# Altium footprint library WT41.PcbLib: 1 footprints
Each footprint in its own frame and in the unit in brackets; x right, y up, seen from the top. Pads: shape width x height; smd on the part's side, far side on the other; paste and mask are expansions set on the pad; w line width, h text height; cw(c..) or ccw(c..) is an arc to the next point about the centre after c.
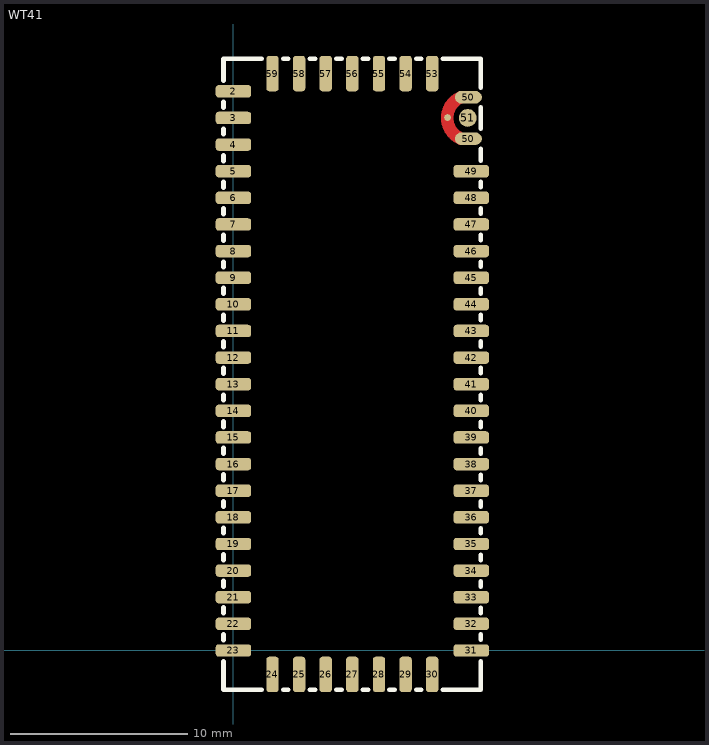
[diagram p0: the footprint, top view; thin cyan lines are the x and y axes]

## WT41 [mm]
pads (59):
  rrect50% 2x0.7 smd: 2(0,31.5) 3(0,30) 4(0,28.5) 5(0,27) 6(0,25.5) 7(0,24) 8(0,22.5) 9(0,21) 10(0,19.5) 11(0,18) 12(0,16.5) 13(0,15) 14(0,13.5) 15(0,12) 16(0,10.5) 17(0,9) 18(0,7.5) 19(0,6) 20(0,4.5) 21(0,3) 22(0,1.5) 23(0,0) 31(13.4,0) 32(13.4,1.5) 33(13.4,3) 34(13.4,4.5) 35(13.4,6) 36(13.4,7.5) 37(13.4,9) 38(13.4,10.5) 39(13.4,12) 40(13.4,13.5) 41(13.4,15) 42(13.4,16.5) 43(13.4,18) 44(13.4,19.5) 45(13.4,21) 46(13.4,22.5) 47(13.4,24) 48(13.4,25.5) 49(13.4,27)
  rrect50% 0.7x2 smd: 24(2.2,-1.35) 25(3.7,-1.35) 26(5.2,-1.35) 27(6.7,-1.35) 28(8.2,-1.35) 29(9.7,-1.35) 30(11.2,-1.35) 53(11.2,32.5) 54(9.7,32.5) 55(8.2,32.5) 56(6.7,32.5) 57(5.2,32.5) 58(3.7,32.5) 59(2.2,32.5)
  round 0.381 smd: 50(12.065,30.023)
  oval 1.524x0.7 smd: 50(13.233,28.829) 50(13.233,31.166)
  round 1 smd: 51(13.2,30)
Top Layer:
  lines w0.7: 12.798,28.839 cw(c13.314,30) 12.798,31.161
Top Overlay:
  lines w0.254: -0.559,-0.61 -0.559,-2.21 1.6,-2.21 ; -0.559,0.572 -0.559,0.902 ; -0.559,2.095 -0.559,2.426 ; -0.559,3.594 -0.559,3.924 ; -0.559,5.093 -0.559,5.423 ; -0.559,6.591 -0.559,6.921 ; -0.559,8.09 -0.559,8.42 ; -0.559,9.588 -0.559,9.919 ; -0.559,11.087 -0.559,11.417 ; -0.559,12.586 -0.559,12.916 ; -0.559,14.084 -0.559,14.414 ; -0.559,15.583 -0.559,15.913 ; -0.559,17.081 -0.559,17.412 ; -0.559,18.58 -0.559,18.91 ; -0.559,20.091 -0.559,20.422 ; -0.559,21.577 -0.559,21.907 ; -0.559,23.076 -0.559,23.406 ; -0.559,24.575 -0.559,24.905 ; -0.559,26.073 -0.559,26.403 ; -0.559,27.572 -0.559,27.902 ; -0.559,29.07 -0.559,29.4 ; -0.559,30.569 -0.559,30.899 ; -0.559,32.106 -0.559,33.34 1.6,33.34 ; 2.794,-2.21 3.099,-2.21 ; 2.794,33.34 3.099,33.34 ; 4.293,-2.21 4.597,-2.21 ; 4.293,33.34 4.597,33.34 ; 5.791,-2.21 6.096,-2.21 ; 5.791,33.34 6.096,33.34 ; 7.29,-2.21 7.595,-2.21 ; 7.29,33.34 7.595,33.34 ; 8.788,-2.21 9.093,-2.21 ; 8.788,33.34 9.093,33.34 ; 10.287,-2.21 10.592,-2.21 ; 10.287,33.34 10.592,33.34 ; 11.786,-2.21 13.941,-2.21 13.941,-0.594 ; 11.786,33.34 13.941,33.34 13.941,31.715 ; 13.941,0.6 13.941,0.904 ; 13.941,2.098 13.941,2.403 ; 13.941,3.597 13.941,3.902 ; 13.941,5.095 13.941,5.4 ; 13.941,6.594 13.941,6.899 ; 13.941,8.093 13.941,8.397 ; 13.941,9.591 13.941,9.896 ; 13.941,11.09 13.941,11.395 ; 13.941,12.588 13.941,12.893 ; 13.941,14.087 13.941,14.392 ; 13.941,15.611 13.941,15.916 ; 13.941,17.11 13.941,17.414 ; 13.941,18.608 13.941,18.913 ; 13.941,20.107 13.941,20.412 ; 13.941,21.605 13.941,21.91 ; 13.941,23.104 13.941,23.409 ; 13.941,24.603 13.941,24.907 ; 13.941,26.101 13.941,26.406 ; 13.941,27.6 13.941,28.26 ; 13.941,29.403 13.941,30.597
Top Paste:
  lines w0.254: 13.941,29.403 13.941,30.597
  lines w0.7: 12.798,28.839 cw(c13.314,30) 12.798,31.161
Top Solder:
  lines w0.9: 12.8,28.839 cw(c13.316,30) 12.8,31.161
3D body: height 5.65, standoff 1.5, extent 0,31 10,33
3D body: height 3.35, standoff 1.5, extent 0,-1.9 13.3,23.6
3D body: height 1.5, standoff 0, extent -0.305,-2.134 13.695,33.166